# Altium footprint library Standard_PIN.PcbLib: 23 footprints (part 1 of 2)
Each footprint in its own frame and in the unit in brackets; x right, y up, seen from the top. Pads: shape width x height; smd on the part's side, far side on the other; paste and mask are expansions set on the pad; w line width, h text height; cw(c..) or ccw(c..) is an arc to the next point about the centre after c.
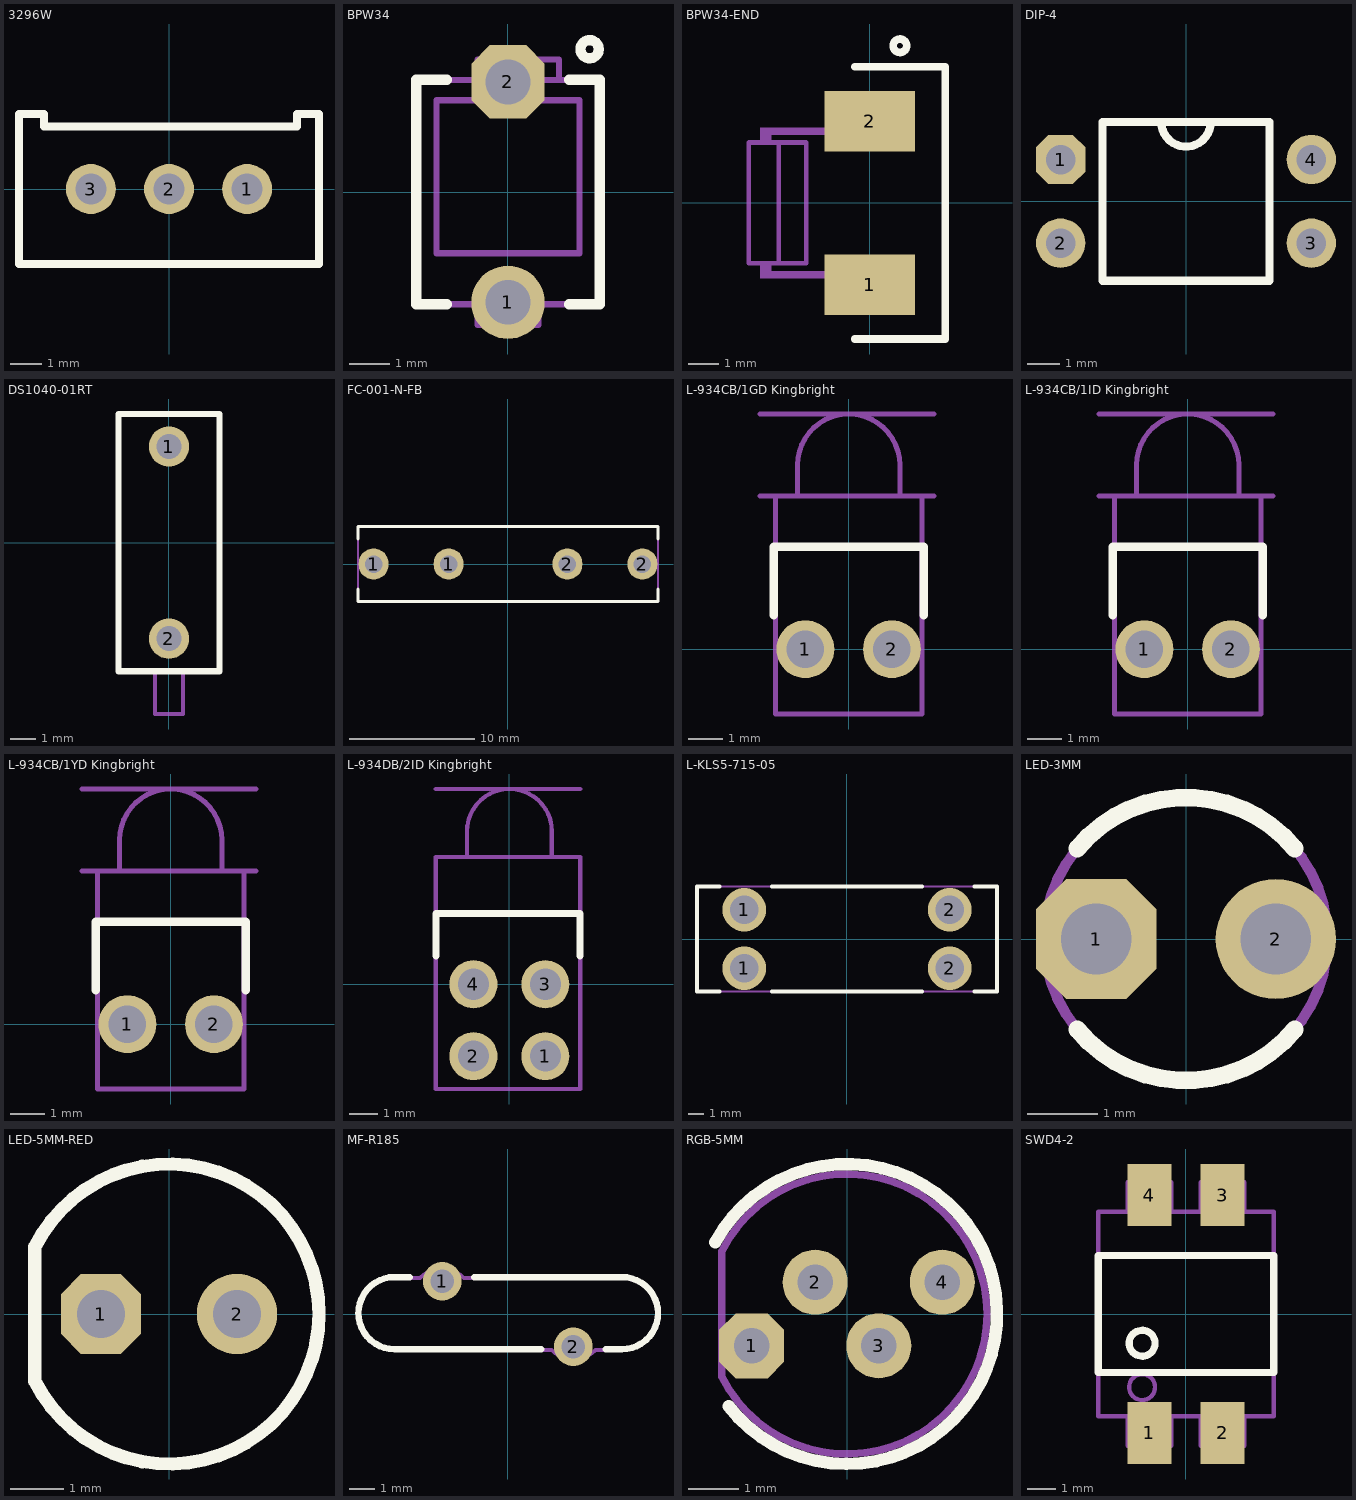
[diagram p0: the footprints below, top view; thin cyan lines are the x and y axes]

## 3296W [mm]
pads (3):
  round 1.6 hole 1: 1(2.5,0) 2(0,0) 3(-2.5,0)
Top Overlay:
  lines w0.25: -4.8,-2.4 -4.8,2.4 -4,2.4 -4,2 4.1,2 4.1,2.4 4.8,2.4 4.8,-2.4 -4.8,-2.4
Top Assembly:
  lines w0.15: -4.8,-2.4 4.8,-2.4 4.8,2.4 4.1,2.4 4.1,2 -4,2 -4,2.4 -4.8,2.4 -4.8,-2.4
3D body "Bourns-3296W.step": height 11, standoff -4.15, extent -4.75,-2.425 4.75,2.425

## BPW34 [mm]
pads (2):
  round 1.8 hole 1.1: 1(0,-2.7)
  oct 1.8x1.8 hole 1.1: 2(0,2.7)
Top Overlay:
  circle w0.25: c2,3.5 r0.224
  lines w0.25: -1.5,-2.75 -2.25,-2.75 -2.25,2.75 -1.5,2.75 ; 1.5,-2.75 2.25,-2.75 2.25,2.75 1.5,2.75
Top Assembly:
  circle w0.15: c2,3.5 r0.25
  lines w0.15: 0.75,2.75 0.75,3.25 ; -2.25,-2.75 2.25,-2.75 2.25,2.75 -2.25,2.75 -2.25,-2.75 ; -1.75,-1.5 1.75,-1.5 1.75,2.25 -1.75,2.25 -1.75,-1.5 ; -0.75,-3.25 0.75,-3.25 0.75,-2.75 -0.75,-2.75 -0.75,-3.25 ; -0.75,2.75 1.25,2.75 1.25,3.25 -0.75,3.25 -0.75,2.75
3D body "bpw34.STEP": height 2.59, standoff -2.61, extent -2.203,-2.686 2.197,2.714

## BPW34-END [mm]
pads (2):
  rect 3x2 smd: 1(0,-2.7) 2(0,2.7)
Top Overlay:
  circle w0.25: c1,5.2 r0.224
  lines w0.25: -0.5,-4.5 2.5,-4.5 2.5,4.5 -0.5,4.5
Top Assembly:
  rectangle: -3.625,-2.5 -3.25,-2
  rectangle: -3.625,2 -3.25,2.5
  rectangle: -3.625,-2.5 1,-2.25
  rectangle: -3.625,2.25 1,2.5
  lines w0.15: -3,-2 -3,2 ; -4,-2 -2.1,-2 -2.1,2 -4,2 -4,-2
3D body "bpw34.STEP": height 2.6, standoff -1.8, extent -4.089,-2.786 1.111,2.614

## DIP-4 [mm]
pads (4):
  oct 1.5x1.5 hole 0.9: 1(-3.81,1.27)
  round 1.5 hole 0.9: 2(-3.81,-1.27) 3(3.81,-1.27) 4(3.81,1.27)
Top Overlay:
  lines w0.25: -0.75,2.413 ccw(c0,2.413) 0.75,2.413 ; -2.54,-2.413 2.54,-2.413 2.54,2.413 -2.54,2.413 -2.54,-2.413
Top Assembly:
  lines w0.15: -0.75,2.413 ccw(c0,2.413) 0.75,2.413 ; -2.54,-2.413 2.54,-2.413 2.54,2.413 -2.54,2.413 -2.54,-2.413
3D body "DIP4.STEP": height 4.7, standoff -2.6, extent -3.935,-2.36 3.935,2.36

## DS1040-01RT [mm]
pads (2):
  round 1.6 hole 1: 1(0,3.81) 2(0,-3.81)
Top Overlay:
  lines w0.25: -2,-5.1 2,-5.1 2,5.1 -2,5.1 -2,-5.1
Top Assembly:
  lines w0.15: -2,-5.1 2,-5.1 2,5.1 -2,5.1 -2,-5.1 ; -0.55,-6.8 0.55,-6.8 0.55,-5.1 -0.55,-5.1 -0.55,-6.8
3D body "DS1040-01RT.stp": height 8, standoff -3, extent -2,-6.75 2,4.95

## FC-001-N-FB [mm]
pads (4):
  oval 2.4x2.5 hole 1.4: 1(-10.75,0) 1(-4.75,0) 2(4.75,0) 2(10.75,0)
Top Overlay:
  lines w0.25: -12,-2 -12,-3 12,-3 12,-2 ; -12,2 -12,3 12,3 12,2
Top Assembly:
  lines w0.15: -12,-3 12,-3 12,3 -12,3 -12,-3
3D body "Clips FC-201 with fuse 5x20.STEP": height 8.63, standoff -3.56, extent -11.689,-3.174 11.689,3.174

## L-934CB/1GD Kingbright [mm]
pads (2):
  round 1.7 hole 1.1: 1(-1.27,0) 2(1.27,0)
Top Overlay:
  lines w0.25: -2.2,1 -2.2,3 2.2,3 2.2,1
Mechanical 1:
  lines w0.15: -2.6,4.5 2.5,4.5 ; -2.6,6.9 2.5,6.9
Top Assembly:
  lines w0.15: -1.5,4.5 -1.5,5.4 cw(c0,5.4) 1.5,5.4 1.5,4.5 ; -2.15,-1.9 -2.15,4.5 2.15,4.5 2.15,-1.9 -2.15,-1.9
3D body "LED 3mm green housing.stp": height 7.4, standoff -2.9, extent -2.25,-2 2.25,6.9

## L-934CB/1ID Kingbright [mm]
pads (2):
  round 1.7 hole 1.1: 1(-1.27,0) 2(1.27,0)
Top Overlay:
  lines w0.25: -2.2,1 -2.2,3 2.2,3 2.2,1
Mechanical 1:
  lines w0.15: -2.6,4.5 2.5,4.5 ; -2.6,6.9 2.5,6.9
Top Assembly:
  lines w0.15: -1.5,4.5 -1.5,5.4 cw(c0,5.4) 1.5,5.4 1.5,4.5 ; -2.15,-1.9 2.15,-1.9 2.15,4.5 -2.15,4.5 -2.15,-1.9
3D body "LED 3mm red housing.stp": height 7.4, standoff -2.9, extent -2.25,-2 2.25,6.9

## L-934CB/1YD Kingbright [mm]
pads (2):
  round 1.7 hole 1.1: 1(-1.27,0) 2(1.27,0)
Top Overlay:
  lines w0.25: -2.2,1 -2.2,3 2.2,3 2.2,1
Mechanical 1:
  lines w0.15: -2.6,4.5 2.5,4.5 ; -2.6,6.9 2.5,6.9
Top Assembly:
  lines w0.15: -1.5,4.5 -1.5,5.4 cw(c0,5.4) 1.5,5.4 1.5,4.5 ; -2.15,-1.9 2.15,-1.9 2.15,4.5 -2.15,4.5 -2.15,-1.9
3D body "LED 3mm yellow housing.stp": height 7.4, standoff -2.9, extent -2.25,-2 2.25,6.9

## L-934DB/2ID Kingbright [mm]
pads (4):
  round 1.7 hole 1.1: 1(1.27,-2.54) 2(-1.27,-2.54) 3(1.27,0) 4(-1.27,0)
Top Overlay:
  lines w0.25: -2.6,1 -2.6,2.5 2.5,2.5 2.5,1
Mechanical 1:
  lines w0.15: -2.6,4.5 2.5,4.5 ; -2.6,6.9 2.5,6.9
Top Assembly:
  lines w0.15: -1.5,4.5 -1.5,5.4 cw(c0,5.4) 1.5,5.4 1.5,4.5 ; -2.6,-3.7 -2.6,4.5 2.5,4.5 2.5,-3.7 -2.6,-3.7
3D body "L-934DB_2ID.STEP": height 9.7, standoff -2.91, extent -2.597,-3.7 2.503,6.906

## L-KLS5-715-05 [mm]
pads (4):
  round 2.9 hole 1.9: 1(-6.85,-1.95) 1(-6.85,1.95) 2(6.85,-1.95) 2(6.85,1.95)
Top Overlay:
  lines w0.25: -8.5,-3.5 -10,-3.5 -10,3.5 -8.5,3.5 ; -5,-3.5 5,-3.5 ; -5,3.5 5,3.5 ; 8.5,-3.5 10,-3.5 10,3.5 8.5,3.5
Top Assembly:
  lines w0.15: -10,-3.5 10,-3.5 10,3.5 -10,3.5 -10,-3.5
3D body "Universal_Car_Fuse_Holder_PCB_v1.step": height 7.5, standoff -2.75, extent -10,-3.5 10,3.5

## LED-3MM [mm]
pads (2):
  oct 1.7x1.7 hole 1: 1(-1.27,0)
  round 1.7 hole 1: 2(1.27,0)
Top Overlay:
  lines w0.25: -1.536,-1.28 ccw(c0,0) 1.536,-1.28 ; -1.536,1.28 cw(c0,0) 1.536,1.28
Top Assembly:
  circle w0.15: c0,0 r2
3D body "LED-3MM.STEP": height 7.3, standoff -3, extent -2,-2 1.52,2

## LED-5MM-RED [mm]
pads (2):
  oct 1.5x1.5 hole 0.9: 1(-1.27,0)
  round 1.5 hole 0.9: 2(1.27,0)
Top Overlay:
  lines w0.25: -2.504,-1.252 ccw(c0,0) -2.504,1.252 -2.504,-1.25
Top Assembly:
  lines w0.15: -2.504,-1.252 ccw(c0,0) -2.504,1.252 -2.504,-1.25
  text "C" at -3.6,-0.6 h1.1
3D body "led-5r_red.step": height 11.6, standoff -2, extent -2.5,-2.9 2.9,2.9

## MF-R185 [mm]
pads (2):
  round 1.5 hole 0.9: 1(-2.54,1.27) 2(2.54,-1.27)
Top Overlay:
  lines w0.25: -3.8,1.431 -4.382,1.431 ccw(c-4.382,0.031) -4.382,-1.369 1.3,-1.369 ; -1.3,1.431 4.418,1.431 cw(c4.418,0.031) 4.418,-1.369 3.8,-1.369
Top Assembly:
  lines w0.15: -4.4,-1.4 cw(c-4.4,0) -4.4,1.4 -3.4,1.4 cw(c-2.55,0.55) -1.7,1.4 4.4,1.4 cw(c4.4,0) 4.4,-1.4 3.4,-1.4 cw(c2.55,-0.55) 1.7,-1.4 -4.4,-1.4
3D body "MF-R090.STEP": height 17.05, standoff -2.65, extent -5.85,-1.55 5.85,1.55

## RGB-5MM [mm]
pads (4):
  oct 1.3x1.3 hole 0.7: 1(-1.905,-0.635)
  round 1.3 hole 0.7: 2(-0.635,0.635) 3(0.635,-0.635) 4(1.905,0.635)
Top Overlay:
  lines w0.25: -2.634,1.437 cw(c0,0) -2.368,-1.842
Top Assembly:
  lines w0.15: -2.504,-1.252 ccw(c0,0) -2.504,1.252 -2.504,-1.252
3D body "LED T-1, dia 5mm, RGB, h0mm.stp": height 11.6, standoff 0, extent -2.5,-2.95 2.95,2.95

## SWD4-2 [mm]
pads (4):
  rect 1.52x2.16 smd: 1(-1.27,-4.13) 2(1.27,-4.13) 3(1.27,4.13) 4(-1.27,4.13)
Top Overlay:
  circle w0.25: c-1.524,-1.016 r0.45
  lines w0.25: -3.048,-2.032 3.048,-2.032 3.048,2.032 -3.048,2.032 -3.048,-2.032
Top Assembly:
  circle w0.15: c-1.524,-2.54 r0.45
  lines w0.15: -3.048,-3.556 3.048,-3.556 3.048,3.556 -3.048,3.556 -3.048,-3.556 ; -2.032,-4.572 -0.508,-4.572 -0.508,-3.556 -2.032,-3.556 -2.032,-4.572 ; -2.032,3.556 -0.508,3.556 -0.508,4.572 -2.032,4.572 -2.032,3.556 ; -1.524,-5.08 -1.016,-5.08 -1.016,-4.572 -1.524,-4.572 -1.524,-5.08 ; -1.524,4.572 -1.016,4.572 -1.016,5.08 -1.524,5.08 -1.524,4.572 ; 0.508,-4.572 2.032,-4.572 2.032,-3.556 0.508,-3.556 0.508,-4.572 ; 0.508,3.556 2.032,3.556 2.032,4.572 0.508,4.572 0.508,3.556 ; 1.016,-5.08 1.524,-5.08 1.524,-4.572 1.016,-4.572 1.016,-5.08 ; 1.016,4.572 1.524,4.572 1.524,5.08 1.016,5.08 1.016,4.572
3D body "SMD DIP SWITCH 2P.step": height 4.36, standoff 0.04, extent -3.01,-4.9 3.01,4.9